# Altium schematic symbol library PCB_PAD_ESP32.Schlib: 1 symbol
Pins are listed as number, name and electrical type; pins without a type are passive.

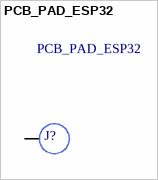
[diagram p0: symbol PCB_PAD_ESP32]

## PCB_PAD_ESP32
designator J?
PCB PAD
pins: ?1 1
2 alternate drawings of the same symbol